# Altium schematic symbol library Integrated_Library1.SCHLIB: 1 symbol
Pins are listed as number, name and electrical type; pins without a type are passive.

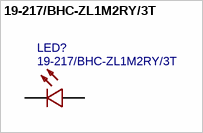
[diagram p0: symbol 19-217/BHC-ZL1M2RY/3T]

## 19-217/BHC-ZL1M2RY/3T
designator LED?
BOM_Manufacturer: EVERLIGHT; BOM_Supplier: LCSC; BOM_Manufacturer Part: 19-217/BHC-ZL1M2RY/3T; BOM_Supplier Part: C72041; BOM_JLCPCB Part Class: Basic Part; spicePre: L; spiceSymbolName: 19-217/BHC-ZL1M2RY/3T
footprint LED0603-R-RD_BLUE
pins: 1 A, 2 C